# Altium schematic symbol library pw_mil.SchLib: 106 symbols
Pins are listed as number, name and electrical type; pins without a type are passive.

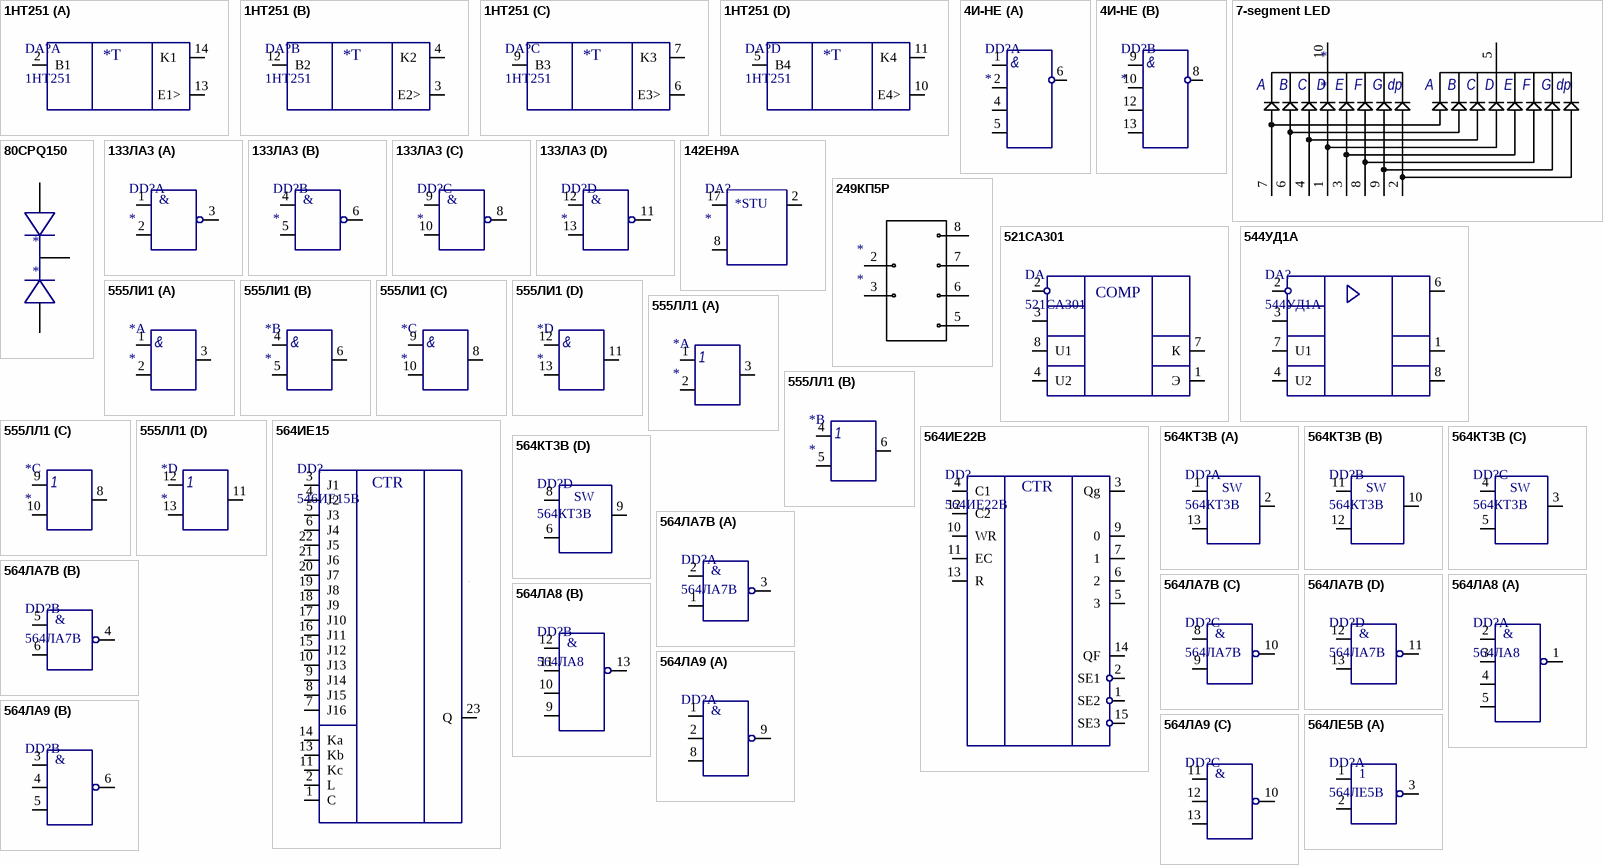
[diagram p0: symbols 1НТ251 to 564ЛЕ5В]

## 1НТ251
designator DA?
Discription: транзисторная сборка; Name: 1НТ251; Package: 401.14-6; Pin Count: 14
part A pins: 2 B1, 13 E1>, 14 K1 
part B pins: 3 E2>, 4 K2 , 12 B2
part C pins: 6 E3>, 7 K3 , 9 B3
part D pins: 5 B4, 10 E4>, 11 K4 
part A text: *Т
part B text: *Т
part C text: *Т
part D text: *Т

## 4И-НЕ
designator DD?
Микросхема; value: *
part A pins: 1, 2 B1, 4 B1, 5 B1, 6 B1
part B pins: 8 B1, 9, 10 B1, 12 B1, 13 B1
part A text: &
part B text: &

## 7-segment LED
designator *
pins: 1, 2, 3, 4, 5, 6, 7, 8, 9, 10
text: A; B; C; D; E; F; G; dp

## 80CPQ150
designator *
pins: 1, 2, 3

## 133ЛА3
designator DD?
Микросхема; value: *
part A pins: 1, 2, 3, 7 hidden to GND, 14 hidden to +5В
part B pins: 4, 5, 6
part C pins: 8, 9, 10
part D pins: 11, 12, 13
part A text: &
part B text: &
part C text: &
part D text: &

## 142ЕН9А
designator DA?
pins: 2, 8, 17
text: *STU

## 249КП5Р
designator *
pins: 2, 3, 5, 6, 7, 8

## 521СА301
designator DA
Discription: компаратор напряжения; Name: 521СА301; Package: 301.8-2; Pin Count: 8
pins: 1 Э, 2, 3, 4 U2, 7 К, 8 U1
text: COMP

## 544УД1А
designator DA?
Discription: операционный усилитель; Name: 544УД1А; Package: 3101.8-8.01; Pin Count: 8
pins: 1, 2, 3, 4 U2, 6, 7 U1, 8

## 555ЛИ1
designator *
4 - 2И
part A pins: 1, 2 B1, 3 B1, 7 GND hidden, 14 Vcc hidden
part B pins: 4, 5, 6 B1
part C pins: 8 B1, 9, 10 B1
part D pins: 11 B1, 12, 13
part A text: &
part B text: &
part C text: &
part D text: &

## 555ЛЛ1
designator *
part A pins: 1, 2 B1, 3 B1, 7 GND hidden, 14 Vcc hidden
part B pins: 4, 5, 6 B1
part C pins: 8 B1, 9, 10 B1
part D pins: 11 B1, 12, 13

## 564ИЕ15
designator DD?, comment 546ИЕ15В
Discription: Counter; Part Number: 546ИЕ15В; Supply Voltage: *; Package: *; Pin Count: 24; Technology: КМОП; Temp Range: *
footprint 564ИЕ15
pins: 1 C, 2 L, 3 J1, 4 J2, 5 J3, 6 J4, 7 J16, 8 J15, 9 J14, 10 J13, 11 Kc, 12 (power) hidden to общий, 13 Kb, 14 Ka, 15 J12, 16 J11, 17 J10, 18 J9, 19 J8, 20 J7, 21 J6, 22 J5, 23 Q, 24 (power) hidden to +10В
text: CTR

## 564ИЕ22В
designator DD?
Discription: Двоично-десяичный счетчик с регистром памяти; Pin Count: 16; Package: 402.16-33; Name: 564ИЕ22В
footprint 402.16-33
pins: 1 SE2, 2 SE1, 3 Qg, 4 С1, 5 3, 6 2, 7 1, 8 (power) hidden to общий, 9 0, 10 WR, 11 EC, 12 С2, 13 R, 14 QF, 15 SE3, 16 (power) hidden to +10В
text: CTR

## 564КТ3В
designator DD?
Discription: 4 двунаправленных переключателя; Name: 564КТ3В; Pin Count: 14; Package: 401.14-5
footprint 401.15-5
footprint 401.14-5
part A pins: 1, 2, 7 hidden to общий, 13, 14 hidden to +10В
part B pins: 10, 11, 12
part C pins: 3, 4, 5
part D pins: 6, 8, 9
part A text: SW
part B text: SW
part C text: SW
part D text: SW

## 564ЛА7В
designator DD?
4х 2И-НЕ; Name: 564ЛА7В; Pin Count: 14; Discription: 4х  2И-НЕ; Package: 401.14-5
footprint 401.15-5
footprint 401.14-5
part A pins: 1, 2, 3, 7 hidden to общий, 14 hidden to +10В
part B pins: 4, 5, 6
part C pins: 8, 9, 10
part D pins: 11, 12, 13
part A text: &
part B text: &
part C text: &
part D text: &

## 564ЛА8
designator DD?
2х 4И-НЕ; rus_value: 564ЛА8
part A pins: 1, 2, 3, 4, 5, 7 hidden to GND, 14 hidden to Vcc
part B pins: 9, 10, 11, 12, 13
part A text: &
part B text: &

## 564ЛА9
designator DD?, comment 564ЛА9В  (value not drawn)
Discription: 3х  3И-НЕ; Pin Count: 14; Name: 564ЛА9В; Package: 401.14-5
footprint 401.15-5
footprint 401.14-5
part A pins: 1, 2, 7 hidden to общий, 8, 9, 14 hidden to +10В
part B pins: 3, 4, 5, 6
part C pins: 10, 11, 12, 13
part A text: &
part B text: &
part C text: &

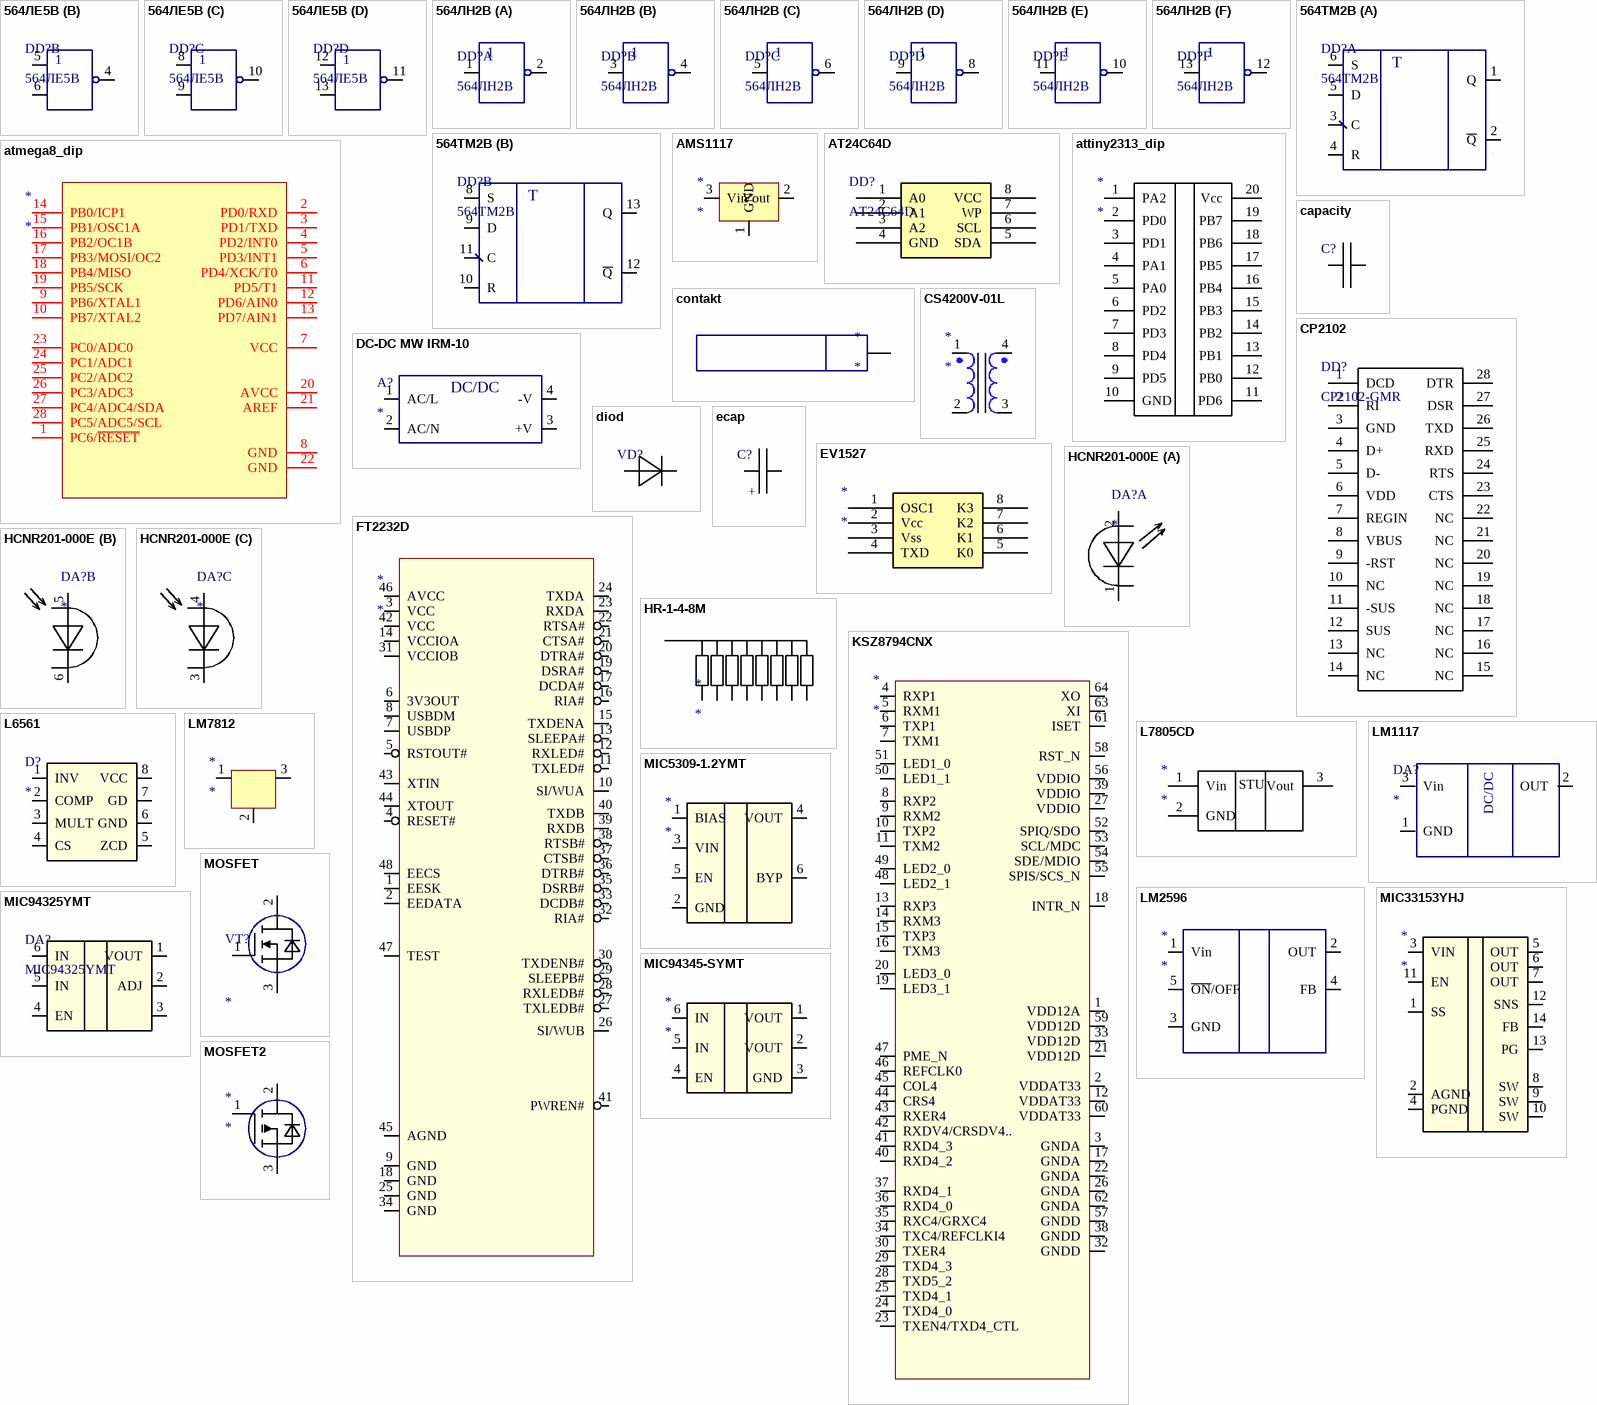
[diagram p1: symbols 564ЛЕ5В to MOSFET2]

## 564ЛЕ5В
designator DD?
Discription: 4х 2ИЛИ-НЕ; Package: 401.14-5; Name: 564ЛЕ5В; Pin Count: 14
footprint 401.15-5
footprint 401.14-5
part A pins: 1, 2, 3, 7 hidden to общий, 14 hidden to +10В
part B pins: 4, 5, 6
part C pins: 8, 9, 10
part D pins: 11, 12, 13

## 564ЛН2B
designator DD?, comment 564ЛН2В
Discription: 6х НЕ; Package: 401.14-5; Name: 564ЛН2В; Pin Count: 14
footprint 401.15-5
footprint 401.14-5
part A pins: 1, 2, 7 hidden to общий, 14 hidden to +10В
part B pins: 3, 4
part C pins: 5, 6
part D pins: 8, 9
part E pins: 10, 11
part F pins: 12, 13

## 564ТМ2В
designator DD?
Discription: D-триггер; Name: 564ТМ2В; Pin Count: 14; Package: 401.14-5
footprint 401.15-5
footprint 401.14-5
part A pins: 1 Q, 2 ~{Q}, 3 C, 4 R, 5 D, 6 S, 7 hidden to общий, 14 hidden to +10В
part B pins: 8 S, 9 D, 10 R, 11 C, 12 ~{Q}, 13 Q
part A text: T
part B text: T

## AMS1117
designator *
pins: 1 GND, 2 Vout, 3 Vin

## AT24C64D
designator DD?
Value: AT24C64D
pins: 1 A0, 2 A1, 3 A2, 4 GND, 5 SDA, 6 SCL, 7 WP, 8 VCC

## atmega8_dip
designator *
pins: 1 PC6/~{RESET}, 2 PD0/RXD, 3 PD1/TXD, 4 PD2/INT0, 5 PD3/INT1, 6 PD4/XCK/T0, 7 VCC, 8 GND, 9 PB6/XTAL1, 10 PB7/XTAL2, 11 PD5/T1, 12 PD6/AIN0, 13 PD7/AIN1, 14 PB0/ICP1, 15 PB1/OSC1A, 16 PB2/OC1B, 17 PB3/MOSI/OC2, 18 PB4/MISO, 19 PB5/SCK, 20 AVCC, 21 AREF, 22 GND, 23 PC0/ADC0, 24 PC1/ADC1, 25 PC2/ADC2, 26 PC3/ADC3, 27 PC4/ADC4/SDA, 28 PC5/ADC5/SCL

## attiny2313_dip
designator *
pins: 1 PA2, 2 PD0, 3 PD1, 4 PA1, 5 PA0, 6 PD2, 7 PD3, 8 PD4, 9 PD5, 10 GND, 11 PD6, 12 PB0, 13 PB1, 14 PB2, 15 PB3, 16 PB4, 17 PB5, 18 PB6, 19 PB7, 20 Vcc

## capacity
designator C?  (value not drawn)
Type: *
pins: 1, 2

## contakt
designator *
pins: 1

## CP2102
designator DD?, comment CP2102-GMR
USB2.0-UART; packeg: QFN-28; value: CP2102-GMR
pins: 1 DCD, 2 RI, 3 GND, 4 D+, 5 D-, 6 VDD, 7 REGIN, 8 VBUS, 9 -RST, 10 NC, 11 -SUS, 12 SUS, 13 NC, 14 NC, 15 NC, 16 NC, 17 NC, 18 NC, 19 NC, 20 NC, 21 NC, 22 NC, 23 CTS, 24 RTS, 25 RXD, 26 TXD, 27 DSR, 28 DTR

## CS4200V-01L
designator *
pins: 1, 2, 3, 4

## DC-DC MW IRM-10
designator A?
pins: 1 AC/L, 2 AC/N, 3 +V, 4 -V
text: DC/DC

## diod
designator VD?  (value not drawn)
Type: *
pins: 1, 2

## ecap
designator C?  (value not drawn)
Type: *
pins: 1, 2
text: +

## EV1527
designator *
pins: 1 OSC1, 2 Vcc, 3 Vss, 4 TXD, 5 K0, 6 K1, 7 K2, 8 K3

## FT2232D
designator *
pins: 1 EESK, 2 EEDATA, 3 VCC, 4 RESET#, 5 RSTOUT#, 6 3V3OUT, 7 USBDP, 8 USBDM, 9 GND, 10 SI/WUA, 11 TXLED#, 12 RXLED#, 13 SLEEPA#, 14 VCCIOA, 15 TXDENA, 16 RIA#, 17 DCDA#, 18 GND, 19 DSRA#, 20 DTRA#, 21 CTSA#, 22 RTSA#, 23 RXDA, 24 TXDA, 25 GND, 26 SI/WUB, 27 TXLEDB#, 28 RXLEDB#, 29 SLEEPB#, 30 TXDENB#, 31 VCCIOB, 32 RIA#, 33 DCDB#, 34 GND, 35 DSRB#, 36 DTRB#, 37 CTSB#, 38 RTSB#, 39 RXDB, 40 TXDB, 41 PWREN#, 42 VCC, 43 XTIN, 44 XTOUT, 45 AGND, 46 AVCC, 47 TEST, 48 EECS

## HCNR201-000E
designator DA?
Высоколинейный оптрон
part A pins: 1 -, 2 +
part B pins: 5 C, 6 E
part C pins: 3 E, 4 C

## HR-1-4-8M
designator *
pins: 1, 2, 3, 4, 5, 6, 7, 8, 9

## KSZ8794CNX
designator *
pins: 1 VDD12A, 2 VDDAT33, 3 GNDA, 4 RXP1, 5 RXM1, 6 TXP1, 7 TXM1, 8 RXP2, 9 RXM2, 10 TXP2, 11 TXM2, 12 VDDAT33, 13 RXP3, 14 RXM3, 15 TXP3, 16 TXM3, 17 GNDA, 18 INTR_N, 19 LED3_1, 20 LED3_0, 21 VDD12D, 22 GNDA, 23 TXEN4/TXD4_CTL, 24 TXD4_0, 25 TXD4_1, 26 GNDA, 27 VDDIO, 28 TXD5_2, 29 TXD4_3, 30 TXER4, 32 GNDD, 33 VDD12D, 34 TXC4/REFCLKI4, 35 RXC4/GRXC4, 36 RXD4_0, 37 RXD4_1, 38 GNDD, 39 VDDIO, 40 RXD4_2, 41 RXD4_3, 42 RXDV4/CRSDV4.., 43 RXER4, 44 CRS4, 45 COL4, 46 REFCLK0, 47 PME_N, 48 LED2_1, 49 LED2_0, 50 LED1_1, 51 LED1_0, 52 SPIQ/SDO, 53 SCL/MDC, 54 SDE/MDIO, 55 SPIS/SCS_N, 56 VDDIO, 57 GNDD, 58 RST_N, 59 VDD12D, 60 VDDAT33, 61 ISET, 62 GNDA, 63 XI, 64 XO

## L6561
designator D?
pins: 1 INV, 2 COMP, 3 MULT, 4 CS, 5 ZCD, 6 GND, 7 GD, 8 VCC

## L7805CD
designator *
footprint D2PAK (D2-PAK, 4-Leads, Body 8.8x10.4mm, Pitch 2.54mm, Lead Span 15.1mm, IPC Low Density)
pins: 1 Vin, 2 GND, 3 Vout
text: STU

## LM1117
designator DA?
pins: 1 GND, 2 OUT, 3 Vin
text: DC/DC

## LM2596
designator *
pins: 1 Vin, 2 OUT, 3 GND, 4 FB, 5 ~{ON}/OFF

## LM7812
designator *
pins: 1, 2, 3

## MIC5309-1.2YMT
designator *
pins: 1 BIAS, 2 GND, 3 VIN, 4 VOUT, 5 EN, 6 BYP

## MIC33153YHJ
designator *
pins: 1 SS, 2 AGND, 3 VIN, 4 PGND, 5 OUT, 6 OUT, 7 OUT, 8 SW, 9 SW, 10 SW, 11 EN, 12 SNS, 13 PG, 14 FB

## MIC94325YMT
designator DA?
Value: MIC94325YMT
pins: 1 VOUT, 2 ADJ, 3 GND, 4 EN, 5 IN, 6 IN

## MIC94345-SYMT
designator *
pins: 1 VOUT, 2 VOUT, 3 GND, 4 EN, 5 IN, 6 IN

## MOSFET
designator VT?
Value: *
pins: 1, 2, 3

## MOSFET2
designator *
pins: 1, 2, 3

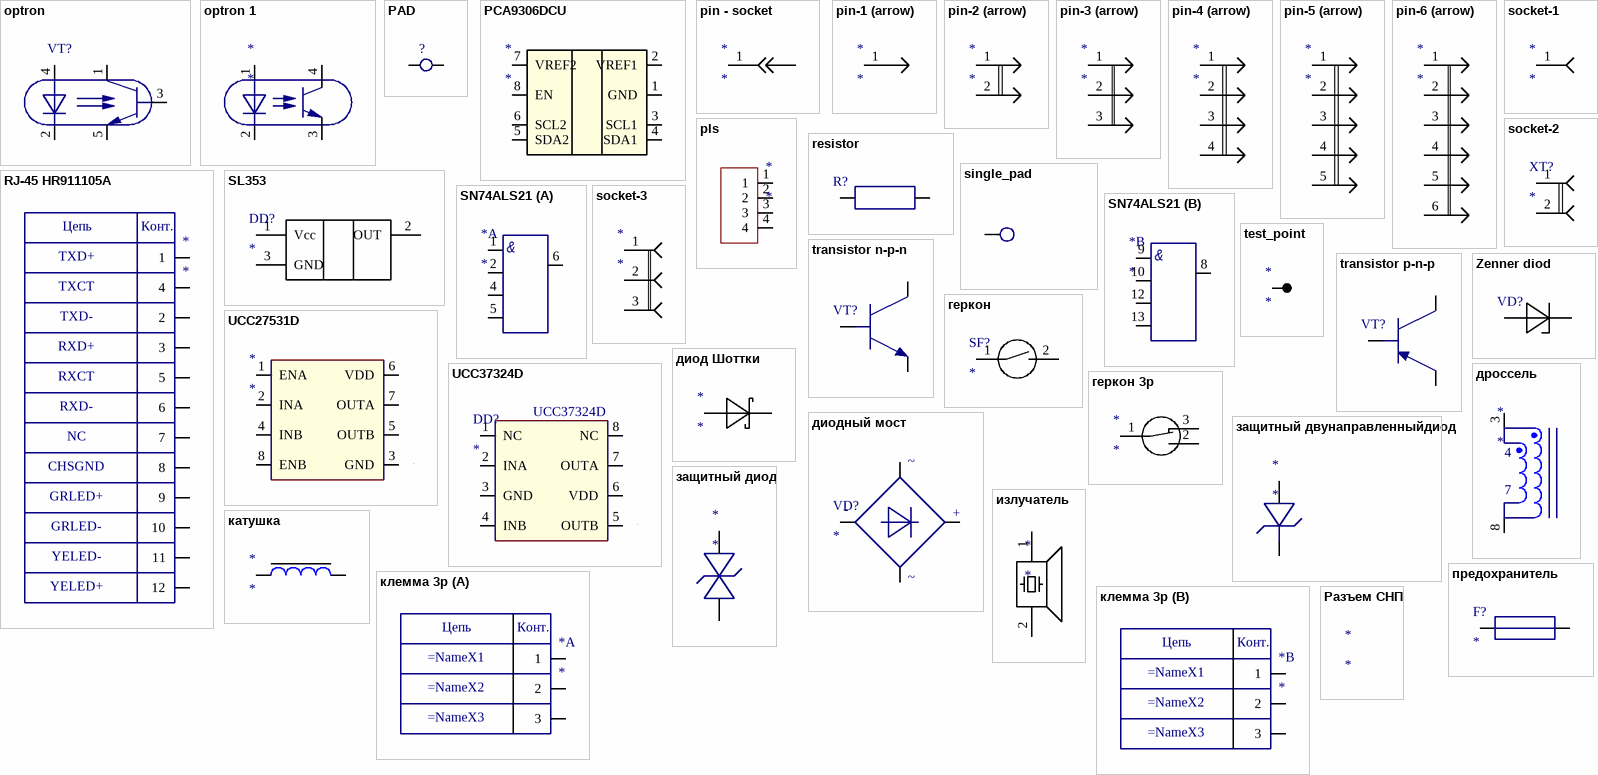
[diagram p2: symbols optron to Разъем СНП]

## optron
designator VT?  (value not drawn)
pins: 1, 2, 3, 4, 5

## optron 1
designator *
pins: 1, 2, 3, 4

## PAD
designator ?  (value not drawn)
pins: 1, 2

## PCA9306DCU
designator *
pins: 1 GND, 2 VREF1, 3 SCL1, 4 SDA1, 5 SDA2, 6 SCL2, 7 VREF2, 8 EN

## pin - socket
designator *
pins: 1

## pin-1 (arrow)
designator *
pins: 1

## pin-2 (arrow)
designator *
pins: 1, 2

## pin-3 (arrow)
designator *
pins: 1, 2, 3

## pin-4 (arrow)
designator *
pins: 1, 2, 3, 4

## pin-5 (arrow)
designator *
pins: 1, 2, 3, 4, 5

## pin-6 (arrow)
designator *
pins: 1, 2, 3, 4, 5, 6

## pls
designator *
pins: 1, 2, 3, 4

## resistor
designator R?  (value not drawn)
Type: *
pins: 1, 2

## RJ-45 HR911105A
designator *
pins: 1, 2, 3, 4, 5, 6, 7, 8, 9, 10, 11, 12
text: Цепь; Конт.; TXD+; TXCT; TXD-; RXD+; RXCT; RXD-; NC; CHSGND; GRLED+; GRLED-; YELED-; YELED+

## single_pad
designator *
footprint single_pad
pins: 1

## SL353
designator DD?
Digital Hall-effect Sensor; value: SL353
pins: 1 Vcc, 2 OUT, 3 GND

## SN74ALS21
designator *
part A pins: 1, 2 B1, 4 B1, 5 B1, 6 B1, 7 GND hidden, 14 VCC hidden
part B pins: 8 B1, 9, 10 B1, 12 B1, 13 B1
part A text: &
part B text: &

## socket-1
designator *
pins: 1

## socket-2
designator XT?
pins: 1, 2

## socket-3
designator *
pins: 1, 2, 3

## test_point
designator *
pins: 1 TP?

## transistor n-p-n
designator VT?  (value not drawn)
pins: 1 B, 2 K, 3 E

## transistor p-n-p
designator VT?  (value not drawn)
pins: 1 B, 2 K, 3 E

## UCC27531D
designator *
pins: 1 ENA, 2 INA, 3 GND, 4 INB, 5 OUTB, 6 VDD, 7 OUTA, 8 ENB

## UCC37324D
designator DD?  value UCC37324D
pins: 1 NC, 2 INA, 3 GND, 4 INB, 5 OUTB, 6 VDD, 7 OUTA, 8 NC

## Zenner diod
designator VD?  (value not drawn)
pins: 1, 2

## геркон
designator SF?
pins: 1, 2

## геркон 3p
designator *
pins: 1, 2, 3

## диод Шоттки
designator *
pins: 1, 2

## диодный мост
designator VD?
value: *
pins: 1, 2, 3, 4
text: ~; -; +

## дроссель
designator *
pins: 3, 8
text: 4; 7

## защитный двунаправленныйдиод
designator *
pins: 1, 2

## защитный диод
designator *
pins: 1, 2

## излучатель
designator *
footprint излучатель d=12
pins: 1, 2

## катушка
designator *
pins: 1, 2

## клемма 3р
designator *
part A pins: 1, 2, 3
part B pins: 4 1, 5 2, 6 3
part A text: Цепь; Конт.
part B text: Цепь; Конт.

## предохранитель
designator F?
value: *
pins: 1, 2

## Разъем СНП
designator *

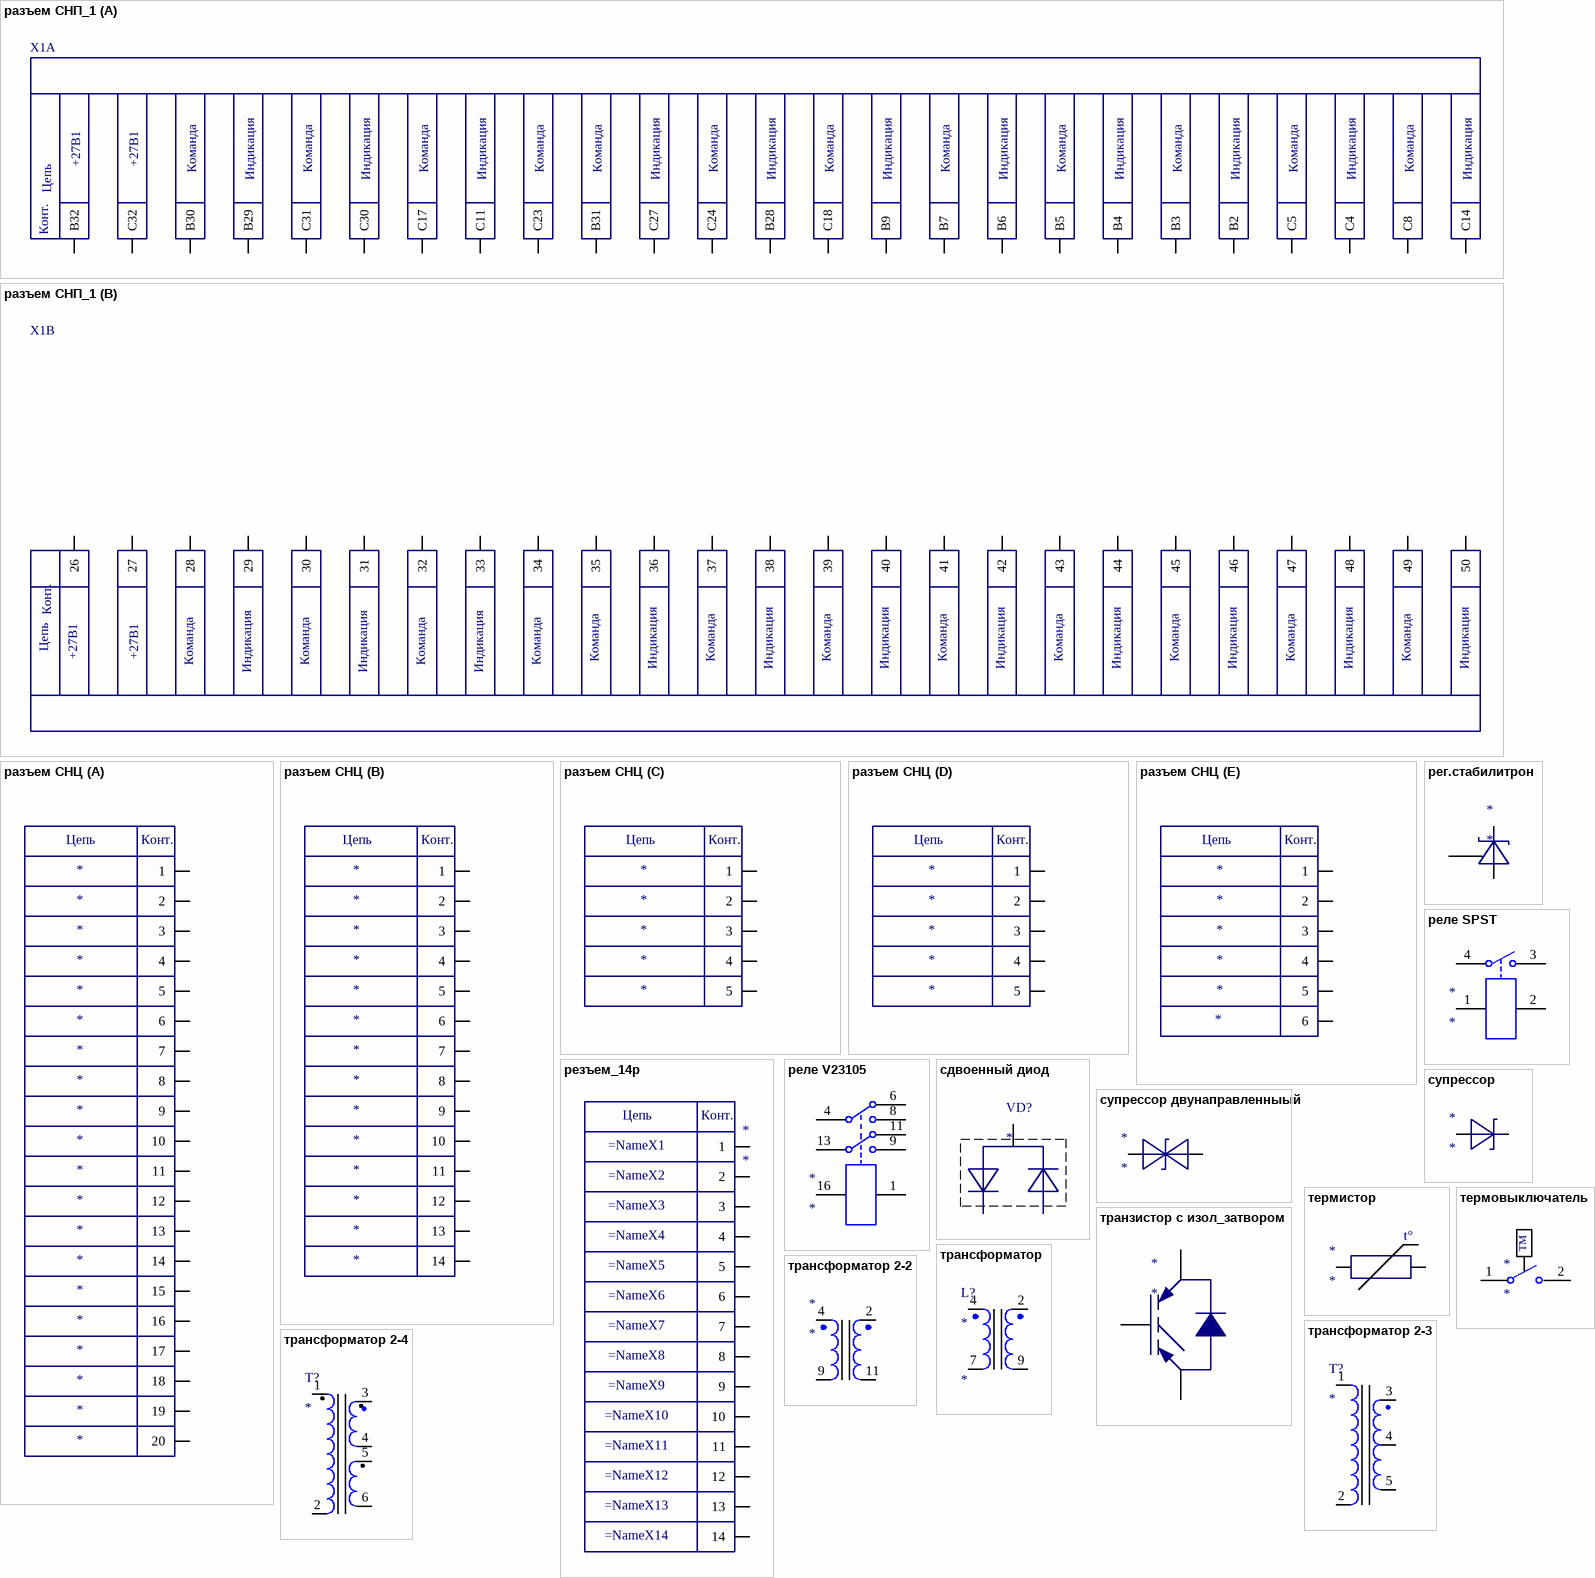
[diagram p3: symbols разъем СНП_1 to трансформатор 2-4]

## разъем СНП_1
designator X1, comment разъем СНП  (value not drawn)
NameX1: +27В1; NameX3: Команда; NameX4: Индикация; NameX2: +27В1; NameX5: Команда; NameX6: Индикация; NameX8: Индикация; NameX7: Команда; NameX9: Команда; NameX10: Команда; NameX11: Индикация; NameX12: Команда; NameX13: Индикация; NameX14: Команда; NameX15: Индикация; NameX16: Команда; NameX17: Индикация; NameX18: Команда; NameX19: Индикация; NameX20: Команда; NameX21: Индикация; NameX22: Команда; NameX23: Индикация; NameX24: Команда; NameX25: Индикация
part A pins: B2, B3, B4, B5, B6, B7, B9, B28, B29, B30, B31, B32, C4, C5, C8, C11, C14, C17, C18, C23, C24, C27, C30, C31, C32
part B pins: 26, 27, 28, 29, 30, 31, 32, 33, 34, 35, 36, 37, 38, 39, 40, 41, 42, 43, 44, 45, 46, 47, 48, 49, 50
part A text: Цепь; Конт.
part B text: Конт.; Цепь

## разъем СНЦ
designator X?
NameX1: *; NameX2: *; NameX4: *; NameX5: *; NameX6: *; NameX7: *; NameX8: *; NameX9: *; NameX10: *; NameX11: *; NameX12: *; NameX13: *; NameX14: *; NameX15: *; NameX16: *; NameX17: *; NameX18: *; NameX19: *; NameX20: *; NameX3: *
part A pins: 1, 2, 3, 4, 5, 6, 7, 8, 9, 10, 11, 12, 13, 14, 15, 16, 17, 18, 19, 20
part B pins: 21 1, 22 2, 23 3, 24 4, 25 5, 26 6, 27 7, 28 8, 29 9, 30 10, 31 11, 32 12, 33 13, 34 14
part C pins: 35 1, 36 2, 37 3, 38 4, 39 5
part D pins: 40 1, 41 2, 42 3, 43 4, 44 5
part E pins: 45 1, 46 2, 47 3, 48 4, 49 5, 50 6
part A text: Цепь; Конт.
part B text: Цепь; Конт.
part C text: Цепь; Конт.
part D text: Цепь; Конт.
part E text: Цепь; Конт.

## рег.стабилитрон
designator *
pins: 1, 2, 3

## резъем_14p
designator *
pins: 1, 2, 3, 4, 5, 6, 7, 8, 9, 10, 11, 12, 13, 14
text: Цепь; Конт.

## реле SPST
designator *
pins: 1, 2, 3, 4

## реле V23105
designator *
pins: 1, 4, 6, 8, 9, 11, 13, 16

## сдвоенный диод
designator VD?
Value: *
pins: 1, 2, 2, 3

## супрессор
designator *
pins: 1, 2

## супрессор двунаправленныый
designator *
pins: 1, 2

## термистор
designator *
pins: 1, 2
text: t°

## термовыключатель
designator *
pins: 1, 2
text: TM

## транзистор с изол_затвором
designator *
pins: 1, 2, 3

## трансформатор
designator L?
value: *
pins: 2, 4, 7, 9

## трансформатор 2-2
designator *
pins: 2, 4, 9, 11

## трансформатор 2-3
designator T?
pins: 1, 2, 3, 4, 5

## трансформатор 2-4
designator T?
pins: 1, 2, 3, 4, 5, 6

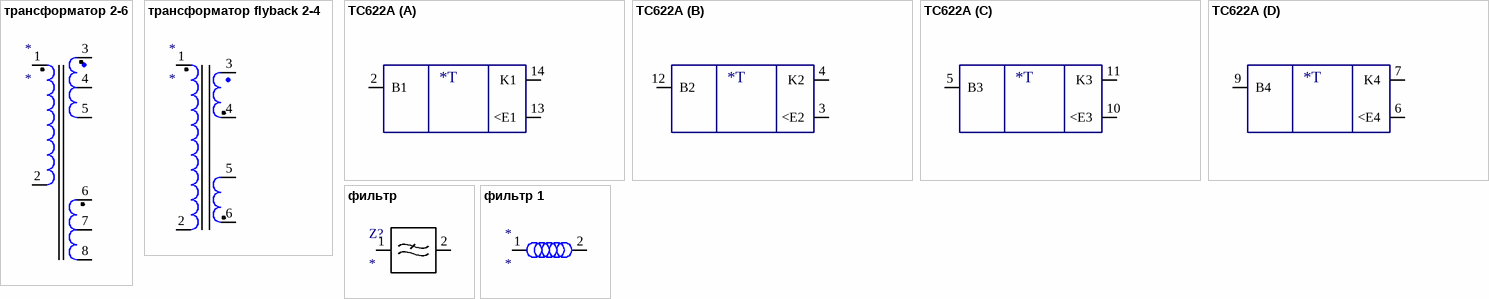
[diagram p4: symbols трансформатор 2-6 to фильтр 1]

## трансформатор 2-6
designator *
pins: 1, 2, 3, 4, 5, 6, 7, 8

## трансформатор flyback 2-4
designator *
pins: 1, 2, 3, 4, 5, 6

## ТС622А
designator DA?
Discription: транзисторная матрица; Name: ТС622А
part A pins: 2 B1, 13 <E1, 14 K1
part B pins: 3 <E2, 4 K2, 12 B2
part C pins: 5 B3, 10 <E3, 11 K3
part D pins: 6 <E4, 7 K4, 9 B4
part A text: *Т
part B text: *Т
part C text: *Т
part D text: *Т

## фильтр
designator Z?
Value: *
pins: 1, 2

## фильтр 1
designator *
pins: 1, 2